# Altium footprint library HDR_fszhang.PcbLib: 116 footprints (part 8 of 8)
Each footprint in its own frame and in the unit in brackets; x right, y up, seen from the top. Pads: shape width x height; smd on the part's side, far side on the other; paste and mask are expansions set on the pad; w line width, h text height; cw(c..) or ccw(c..) is an arc to the next point about the centre after c.
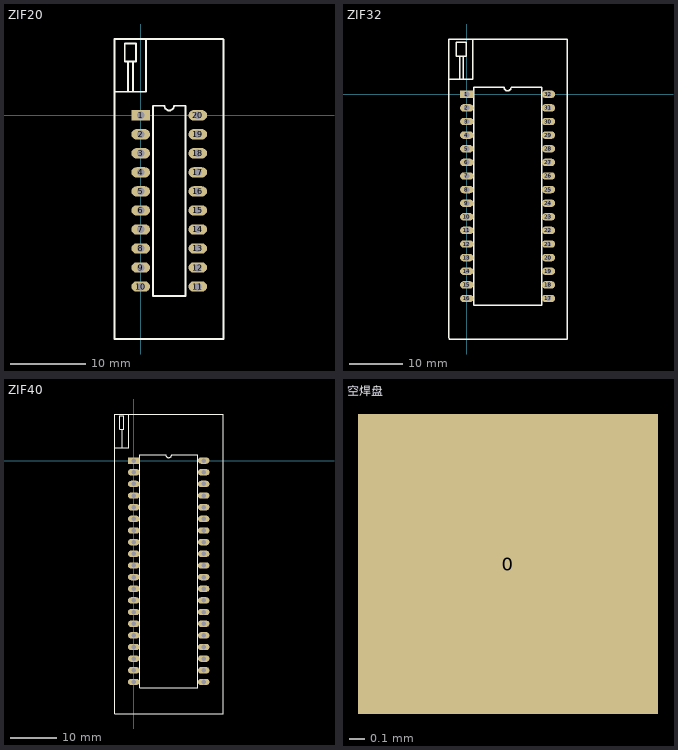
[diagram p7: the footprints below, top view; thin cyan lines are the x and y axes]

## ZIF20 [mm]
pads (20):
  rect 2.5x1.38 hole 1: 1(0,0)
  oval 2.5x1.38 hole 1: 2(0,-2.54) 3(0,-5.08) 4(0,-7.62) 5(0,-10.16) 6(0,-12.7) 7(0,-15.24) 8(0,-17.78) 9(0,-20.32) 10(0,-22.86) 11(7.62,-22.86) 12(7.62,-20.32) 13(7.62,-17.78) 14(7.62,-15.24) 15(7.62,-12.7) 16(7.62,-10.16) 17(7.62,-7.62) 18(7.62,-5.08) 19(7.62,-2.54) 20(7.62,0)
Top Overlay:
  lines w0.254: -3.522,-29.828 -3.522,-18.236 -3.522,-7.112 -3.522,10.186 -3.252,10.186 11.022,10.186 ; -3.522,3.148 0.726,3.148 0.726,10.15 ; -3.486,-29.864 7.602,-29.864 9.87,-29.864 11.04,-29.864 ; -1.686,3.238 -1.686,7.198 ; -1.038,3.148 -1.038,7.198 ; 11.076,-29.828 11.076,-17.984 11.076,-6.986 11.076,10.132 ; -2.136,7.216 -2.118,7.198 -0.606,7.198 -0.606,9.574 -0.642,9.61 -2.136,9.61 -2.136,7.216 ; 1.651,-24.13 5.969,-24.13 5.969,1.27 4.445,1.27 cw(c3.81,1.27) 3.175,1.27 1.651,1.27 1.651,-24.13

## ZIF32 [mm]
pads (32):
  rect 2.5x1.38 hole 1: 1(0,0)
  oval 2.5x1.38 hole 1: 2(0,-2.54) 3(0,-5.08) 4(0,-7.62) 5(0,-10.16) 6(0,-12.7) 7(0,-15.24) 8(0,-17.78) 9(0,-20.32) 10(0,-22.86) 11(0,-25.4) 12(0,-27.94) 13(0,-30.48) 14(0,-33.02) 15(0,-35.56) 16(0,-38.1) 17(15.24,-38.1) 18(15.24,-35.56) 19(15.24,-33.02) 20(15.24,-30.48) 21(15.24,-27.94) 22(15.24,-25.4) 23(15.24,-22.86) 24(15.24,-20.32) 25(15.24,-17.78) 26(15.24,-15.24) 27(15.24,-12.7) 28(15.24,-10.16) 29(15.24,-7.62) 30(15.24,-5.08) 31(15.24,-2.54) 32(15.24,0)
Top Overlay:
  lines w0.254: -3.322,2.794 1.034,2.794 1.088,2.848 1.088,10.318 ; -3.07,10.318 18.71,10.318 18.71,-2.354 18.71,-7.97 18.71,-45.662 -3.304,-45.662 -3.322,-45.23 -3.322,-9.734 -3.322,-2.444 -3.322,9.922 -3.322,10.318 -2.242,10.318 ; -1.324,2.794 -1.324,7.078 ; -0.694,2.794 -0.694,7.078 ; -1.99,7.078 -1.99,9.706 -0.118,9.706 -0.118,7.078 -1.99,7.078 ; 1.27,-39.37 13.97,-39.37 13.97,1.27 8.255,1.27 cw(c7.62,1.27) 6.985,1.27 1.27,1.27 1.27,-39.37

## ZIF40 [mm]
pads (40):
  rect 2.5x1.38 hole 1: 1(0,0)
  oval 2.5x1.38 hole 1: 2(0,-2.54) 3(0,-5.08) 4(0,-7.62) 5(0,-10.16) 6(0,-12.7) 7(0,-15.24) 8(0,-17.78) 9(0,-20.32) 10(0,-22.86) 11(0,-25.4) 12(0,-27.94) 13(0,-30.48) 14(0,-33.02) 15(0,-35.56) 16(0,-38.1) 17(0,-40.64) 18(0,-43.18) 19(0,-45.72) 20(0,-48.26) 21(15.24,-48.26) 22(15.24,-45.72) 23(15.24,-43.18) 24(15.24,-40.64) 25(15.24,-38.1) 26(15.24,-35.56) 27(15.24,-33.02) 28(15.24,-30.48) 29(15.24,-27.94) 30(15.24,-25.4) 31(15.24,-22.86) 32(15.24,-20.32) 33(15.24,-17.78) 34(15.24,-15.24) 35(15.24,-12.7) 36(15.24,-10.16) 37(15.24,-7.62) 38(15.24,-5.08) 39(15.24,-2.54) 40(15.24,0)
Top Overlay:
  lines w0.254: -4.191,0 -4.191,10.16 19.558,10.16 19.558,0 19.558,-55.245 -1.397,-55.245 ; -4.191,0.762 -4.191,-55.245 -1.27,-55.245 ; -4.064,2.794 -1.143,2.794 -1.143,4.953 -1.143,10.16 ; -2.54,2.794 -2.54,6.858 ; -2.159,6.985 -2.159,6.858 ; -2.159,6.858 -2.159,9.779 -3.048,9.779 -3.048,6.858 -2.159,6.858 ; 1.27,-49.53 1.27,1.27 6.985,1.27 ccw(c7.62,1.27) 8.255,1.27 13.97,1.27 13.97,-49.53 1.27,-49.53

## 空焊盘 [mm]
pads (1):
  rect 2x2 all layers, no hole: 0(-1247.14,-1255.268)